# Altium schematic symbol library AP6256.SchLib: 1 symbol
Pins are listed as number, name and electrical type; pins without a type are passive.

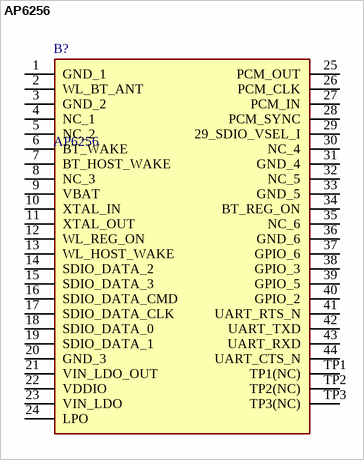
[diagram p0: symbol AP6256]

## AP6256
designator B?
WiFi 11ac + Bluetooth V5.0 Module; Manufacturer_Name: AMPAK; Geometry.Height: 1.6mm; Manufacturer_Part_Number: AP6256; Mouser Part Number: *; Mouser Price/Stock: *; Arrow Part Number: *; Arrow Price/Stock: *; Datasheet Link: https://dl.radxa.com/rockpi4/docs/hw/datasheets/AP6256%20datasheet_V1.3_12202017.pdf
footprint AP6256
pins: 1 GND_1, 2 WL_BT_ANT, 3 GND_2, 4 NC_1, 5 NC_2, 6 BT_WAKE, 7 BT_HOST_WAKE, 8 NC_3, 9 VBAT, 10 XTAL_IN, 11 XTAL_OUT, 12 WL_REG_ON, 13 WL_HOST_WAKE, 14 SDIO_DATA_2, 15 SDIO_DATA_3, 16 SDIO_DATA_CMD, 17 SDIO_DATA_CLK, 18 SDIO_DATA_0, 19 SDIO_DATA_1, 20 GND_3, 21 VIN_LDO_OUT, 22 VDDIO, 23 VIN_LDO, 24 LPO, 25 PCM_OUT, 26 PCM_CLK, 27 PCM_IN, 28 PCM_SYNC, 29 29_SDIO_VSEL_I, 30 NC_4, 31 GND_4, 32 NC_5, 33 GND_5, 34 BT_REG_ON, 35 NC_6, 36 GND_6, 37 GPIO_6, 38 GPIO_3, 39 GPIO_5, 40 GPIO_2, 41 UART_RTS_N, 42 UART_TXD, 43 UART_RXD, 44 UART_CTS_N, TP1 TP1(NC), TP2 TP2(NC), TP3 TP3(NC)